# Altium schematic symbol library L78L33ACD13TR.Schlib: 1 symbol
Pins are listed as number, name and electrical type; pins without a type are passive.

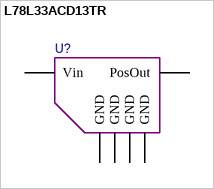
[diagram p0: symbol L78L33ACD13TR]

## L78L33ACD13TR
designator U?  (value not drawn)
pins: 1 PosOut, 2 GND, 3 GND, 6 GND, 7 GND, 8 Vin